# Altium footprint library MSOP-8.PcbLib: 1 footprints
Each footprint in its own frame and in the unit in brackets; x right, y up, seen from the top. Pads: shape width x height; smd on the part's side, far side on the other; paste and mask are expansions set on the pad; w line width, h text height; cw(c..) or ccw(c..) is an arc to the next point about the centre after c.
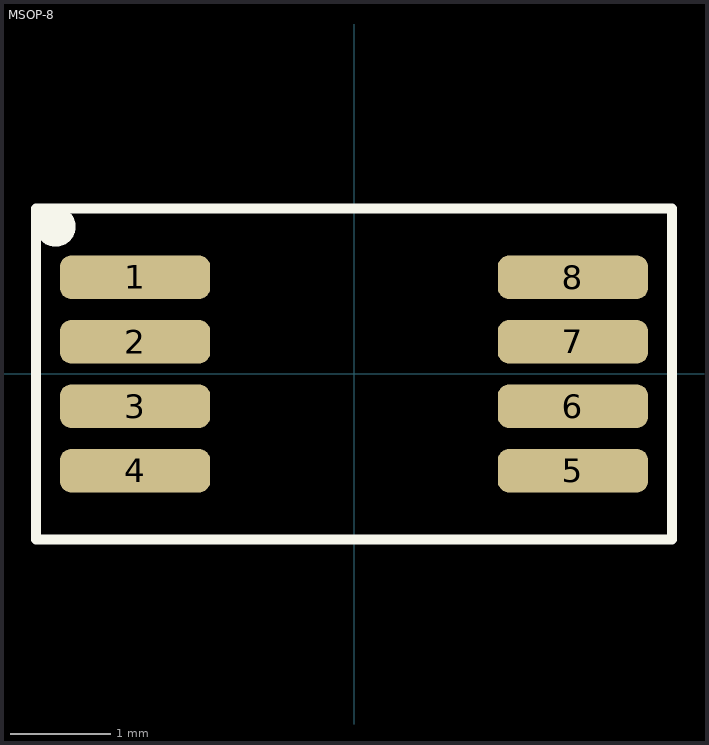
[diagram p0: the footprint, top view; thin cyan lines are the x and y axes]

## MSOP-8 [mil]
pads (8):
  rrect50% 59x17 smd: 1(-86,38) 2(-86,12.67) 3(-86,-12.67) 4(-86,-38) 5(86,-38) 6(86,-12.67) 7(86,12.67) 8(86,38)
Top Overlay:
  lines w3.94: -125,-65 -125,65 125,65 125,-65 -125,-65
  lines w7.87: -113.34,58.67 ccw(c-117.2,57.9) -113.27,57.9
3D body "step_temp.STEP": height 43.31, standoff 0, extent -96.46,-59.06 96.46,59.06